# Altium footprint library PCB1.PcbLib: 25 footprints (part 1 of 2)
Each footprint in its own frame and in the unit in brackets; x right, y up, seen from the top. Pads: shape width x height; smd on the part's side, far side on the other; paste and mask are expansions set on the pad; w line width, h text height; cw(c..) or ccw(c..) is an arc to the next point about the centre after c.
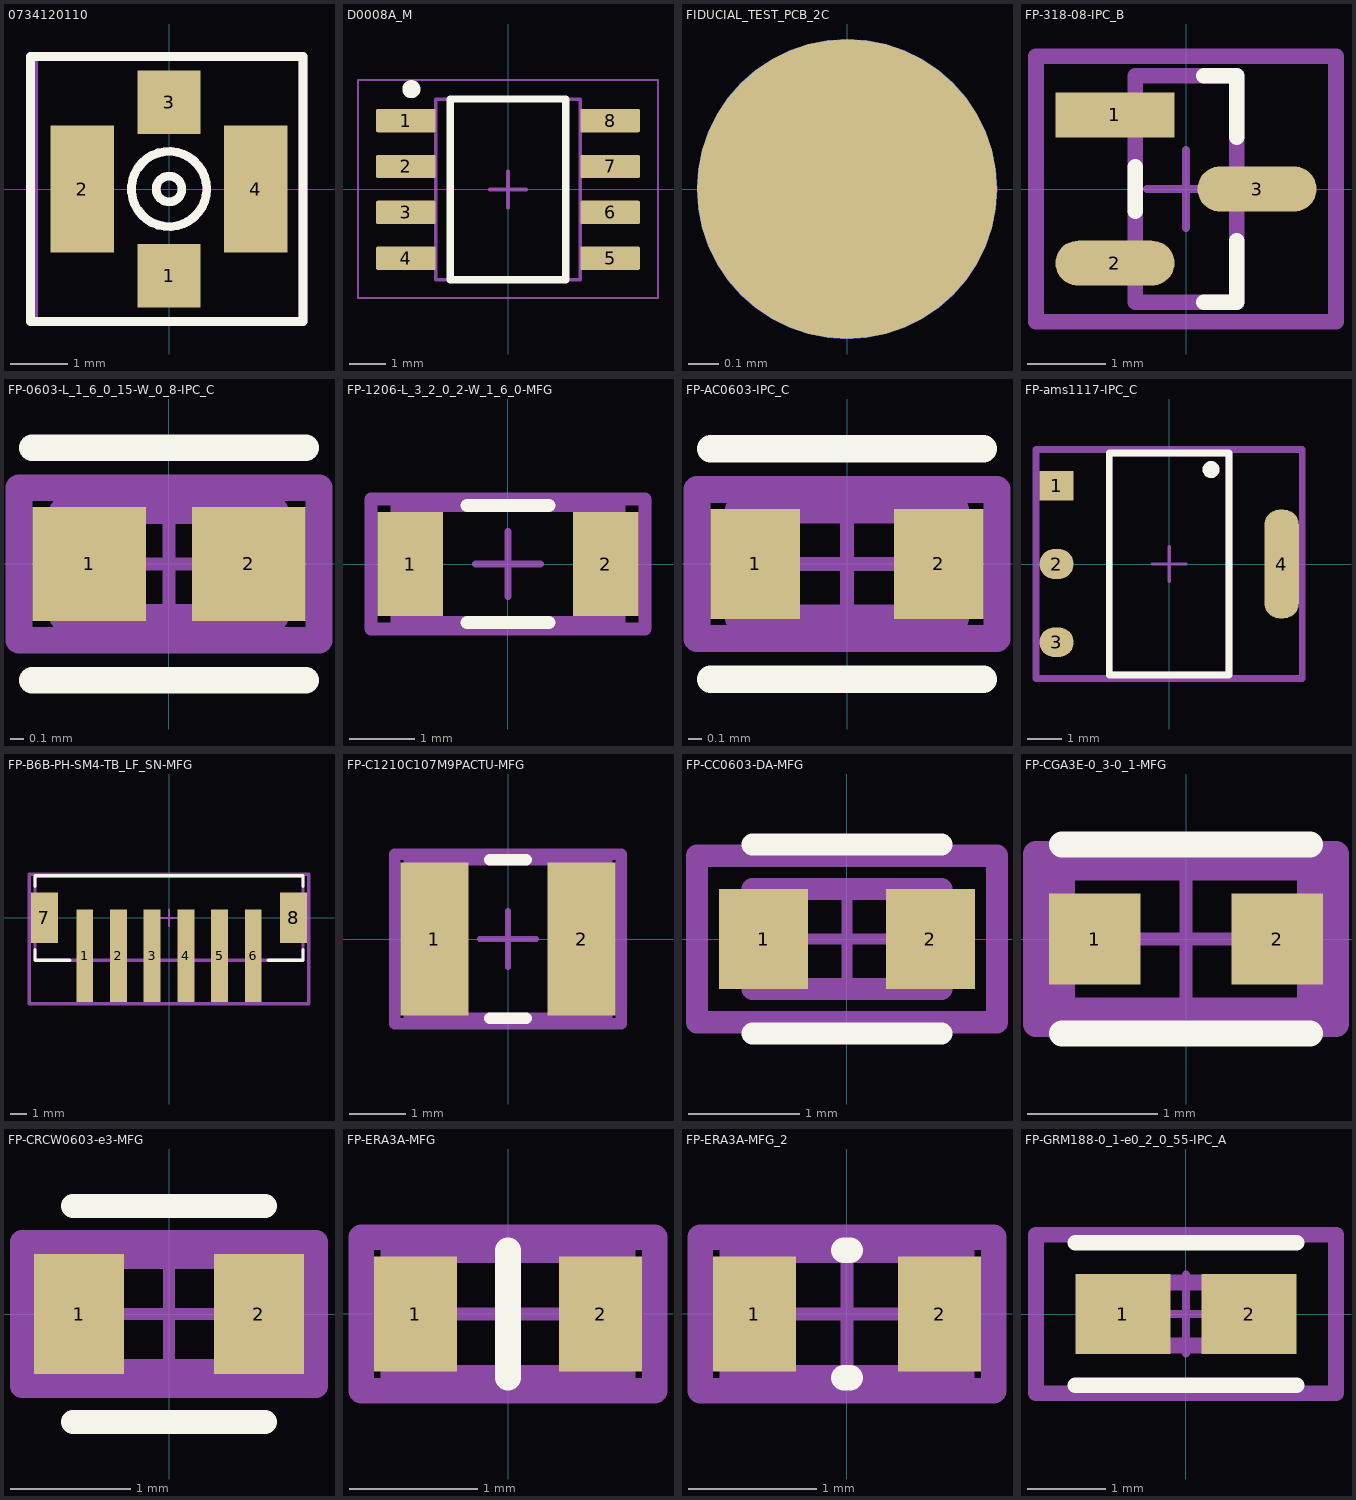
[diagram p0: the footprints below, top view; thin cyan lines are the x and y axes]

## 0734120110 [mm]
pads (4):
  rect 1.1x1.1 smd: 1(0,-1.5) 3(0,1.5)
  rect 1.1x2.2 smd: 2(-1.5,0) 4(1.5,0)
Top Overlay:
  circle w0.15: c0,0 r0.652
  circle w0.15: c0,0 r0.224
  lines w0.157: -2.4,-2.3 -2.4,2.3 2.325,2.3 2.325,-2.3 -2.4,-2.3
Mechanical 29:
  circle w0.15: c0,0 r0.652
  circle w0.15: c0,0 r0.224
  lines w0.157: -2.35,-2.3 -2.35,2.3 2.325,2.3 2.325,-2.3 -2.35,-2.3
  text ".Designator" at -0.525,-1.675 h0.9
3D body "734120110.stp": height 1.29, standoff -0.01, extent -1.5,-1.54 1.5,1.54

## D0008A_M [mm]
pads (8):
  rrect15% 1.65x0.65 smd: 1(-2.825,1.905) 2(-2.825,0.635) 3(-2.825,-0.635) 4(-2.825,-1.905) 5(2.825,-1.905) 6(2.825,-0.635) 7(2.825,0.635) 8(2.825,1.905)
Top Overlay:
  circle w0.25: c-2.675,2.775 r0.125
  lines w0.2: -1.6,-2.5 -1.6,2.5 1.6,2.5 1.6,-2.5 -1.6,-2.5
Mechanical 1:
  text ".Designator" at -1.397,-0.254 h0.6
Mechanical 13:
  lines w0.1: -2,-2.5 -2,2.5 2,2.5 2,-2.5 -2,-2.5
Mechanical 15:
  lines w0.05: -4.15,-3 -4.15,3.025 4.15,3.025 4.15,-3 -4.15,-3
  lines w0.1: -0.5,0 0.5,0 ; 0,-0.5 0,0.5
3D body "SOIC-8akaD0008AakaM08A.stp": height 1.63, standoff 0, extent -3,-2.45 3,2.45

## FIDUCIAL_TEST_PCB_2C [mm]
pads (2):
  round 1 smd mask+1: ""(0,0)
  round 1 smd far side mask+1: ""(0,0)

## FP-318-08-IPC_B [mm]
pads (3):
  rect 1.524x0.578 smd paste+0 mask+0: 1(-0.91,0.95)
  rrect100% 1.524x0.578 smd paste+0 mask+0: 2(-0.91,-0.95) 3(0.91,0)
Top Overlay:
  lines w0.2: -0.65,-0.286 -0.65,0.286 ; 0.227,-1.45 0.65,-1.45 0.65,-0.664 ; 0.227,1.45 0.65,1.45 0.65,0.664
Top 3D Body:
  lines w0.2: -0.65,-1.45 -0.65,1.45 0.65,1.45 0.65,-1.45 -0.65,-1.45
Top Assembly:
  lines w0.2: -1.922,-1.7 -1.922,1.7 1.922,1.7 1.922,-1.7 -1.922,-1.7
  text ".Designator" at 0,0 h1
Top Component Center:
  lines w0.1: -0.5,0 0.5,0 ; 0,-0.5 0,0.5
3D body "IC_ON_Semiconductor_NUD3112LT1G_eec.STEP": height 0.25, standoff 0, extent -1.922,-1.7 1.922,1.7

## FP-0603-L_1_6_0_15-W_0_8-IPC_C [mm]
pads (2):
  rect 0.858x0.862 smd paste+0 mask+0: 1(-0.602,0) 2(0.602,0)
Top Overlay:
  lines w0.2: -1.031,-0.875 1.031,-0.875 ; -1.031,0.875 1.031,0.875
Top 3D Body:
  lines w0.2: -0.8,-0.4 -0.8,0.4 0.8,0.4 0.8,-0.4 -0.8,-0.4
Top Courtyard:
  lines w0.2: -1.131,-0.575 -1.131,0.575 1.131,0.575 1.131,-0.575 -1.131,-0.575
Top Assembly:
  lines w0.2: -1.131,-0.575 -1.131,0.575 1.131,0.575 1.131,-0.575 -1.131,-0.575
  text ".Designator" at 0,0.188 h1
Top Component Center:
  lines w0.1: -0.5,0 0.5,0 ; 0,-0.5 0,0.5
3D body "Cap_Taiyo_Yuden_EMK107ABJ475KA-T_eec.STEP": height 0.25, standoff 0, extent -1.131,-0.575 1.131,0.575

## FP-1206-L_3_2_0_2-W_1_6_0-MFG [mm]
pads (2):
  rect 1x1.6 smd paste+0 mask+0: 1(-1.5,0) 2(1.5,0)
Top Overlay:
  lines w0.2: -0.625,-0.9 0.625,-0.9 ; -0.625,0.9 0.625,0.9
Top 3D Body:
  lines w0.2: -1.7,-0.9 1.7,-0.9 1.7,0.9 -1.7,0.9 -1.7,-0.9
Top Courtyard:
  lines w0.2: -2.1,-1 2.1,-1 2.1,1 -2.1,1 -2.1,-1
Top Assembly:
  lines w0.2: -2.1,-1 2.1,-1 2.1,1 -2.1,1 -2.1,-1
  text ".Designator" at 0,0.189 h1
Top Component Center:
  lines w0.1: -0.5,0 0.5,0 ; 0,-0.5 0,0.5
3D body "Cap_AVX_12065A222JAT2A_eec.STEP": height 0.25, standoff 0, extent -2.1,-1 2.1,1

## FP-AC0603-IPC_C [mm]
pads (2):
  rect 0.659x0.812 smd paste+0 mask+0: 1(-0.677,0) 2(0.677,0)
Top Overlay:
  lines w0.2: -1.006,-0.85 1.006,-0.85 ; -1.006,0.85 1.006,0.85
Top 3D Body:
  lines w0.2: -0.8,-0.4 -0.8,0.4 0.8,0.4 0.8,-0.4 -0.8,-0.4
Top Courtyard:
  lines w0.2: -1.106,-0.55 -1.106,0.55 1.106,0.55 1.106,-0.55 -1.106,-0.55
Top Assembly:
  lines w0.2: -1.106,-0.55 -1.106,0.55 1.106,0.55 1.106,-0.55 -1.106,-0.55
  text ".Designator" at 0,0.189 h1
Top Component Center:
  lines w0.1: -0.5,0 0.5,0 ; 0,-0.5 0,0.5
3D body "Res_Yageo_AC0603FR-07180RL_eec.STEP": height 0.25, standoff 0, extent -1.106,-0.55 1.106,0.55

## FP-ams1117-IPC_C [mm]
pads (4):
  rect 1.004x0.872 smd paste+0 mask+0: 1(-3.295,2.29)
  rrect100% 1.004x0.872 smd paste+0 mask+0: 2(-3.295,0) 3(-3.295,-2.29)
  rrect87% 1.004x3.182 smd paste+0 mask+0: 4(3.295,0)
Top Overlay:
  circle w0.25: c1.23,2.765 r0.125
  lines w0.2: -1.752,-3.253 1.753,-3.253 1.753,3.253 -1.752,3.253 -1.752,-3.253
Top 3D Body:
  lines w0.2: -1.752,-3.253 1.753,-3.253 1.753,3.253 -1.752,3.253 -1.752,-3.253
Top Courtyard:
  lines w0.2: -3.897,-3.352 3.897,-3.352 3.897,3.352 -3.897,3.352 -3.897,-3.352
Top Assembly:
  lines w0.2: -3.897,-3.352 3.897,-3.352 3.897,3.352 -3.897,3.352 -3.897,-3.352
  text ".Designator" at 0,0.189 h1
Top Component Center:
  lines w0.1: -0.5,0 0.5,0 ; 0,-0.5 0,0.5
3D body "IC_Advanced_Monolithic_Systems_ams1117_eec.STEP": height 0.25, standoff 0, extent -3.897,-3.353 3.897,3.353

## FP-B6B-PH-SM4-TB_LF_SN-MFG [mm]
pads (8):
  rect 1x5.5 smd paste+0 mask+0: 1(-5,-2.25) 2(-3,-2.25) 3(-1,-2.25) 4(1,-2.25) 5(3,-2.25) 6(5,-2.25)
  rect 1.6x3 smd paste+0 mask+0: 7(-7.4,0) 8(7.4,0)
Top Overlay:
  lines w0.2: -7.95,-1.875 -7.95,-2.5 -5.875,-2.5 ; -7.95,1.875 -7.95,2.5 7.95,2.5 7.95,1.875 ; 5.875,-2.5 7.95,-2.5 7.95,-1.875
Top 3D Body:
  lines w0.2: -7.95,-2.5 -7.95,2.5 7.95,2.5 7.95,-2.5 -7.95,-2.5
Top Courtyard:
  lines w0.2: -8.3,-5.1 -8.3,2.6 8.3,2.6 8.3,-5.1 -8.3,-5.1
Top Assembly:
  lines w0.2: -8.3,-5.1 -8.3,2.6 8.3,2.6 8.3,-5.1 -8.3,-5.1
  text ".Designator" at 0,-1.25 h1
Top Component Center:
  lines w0.1: -0.5,0 0.5,0 ; 0,-0.5 0,0.5
3D body "Conn_JST_B6B-PH-SM4-TB_LF_SN_eec.STEP": height 0.25, standoff 0, extent -8.3,-5.1 8.3,2.6

## FP-C1210C107M9PACTU-MFG [mm]
pads (2):
  rect 1.2x2.7 smd paste+0 mask+0: 1(-1.3,0) 2(1.3,0)
Top Overlay:
  lines w0.2: -0.325,-1.4 0.325,-1.4 ; -0.325,1.4 0.325,1.4
Top 3D Body:
  lines w0.2: -1.75,-1.4 1.75,-1.4 1.75,1.4 -1.75,1.4 -1.75,-1.4
Top Courtyard:
  lines w0.2: -2,-1.5 2,-1.5 2,1.5 -2,1.5 -2,-1.5
Top Assembly:
  lines w0.2: -2,-1.5 2,-1.5 2,1.5 -2,1.5 -2,-1.5
  text ".Designator" at 0,0.188 h1
Top Component Center:
  lines w0.1: -0.5,0 0.5,0 ; 0,-0.5 0,0.5
3D body "Cap_Kemet_C1210C107M9PACTU_eec.STEP": height 0.25, standoff 0, extent -2,-1.5 2,1.5

## FP-CC0603-DA-MFG [mm]
pads (2):
  rect 0.8x0.9 smd paste+0 mask+0: 1(-0.75,0) 2(0.75,0)
Top Overlay:
  lines w0.2: -0.85,-0.85 0.85,-0.85 ; -0.85,0.85 0.85,0.85
Top 3D Body:
  lines w0.2: -0.85,-0.45 0.85,-0.45 0.85,0.45 -0.85,0.45 -0.85,-0.45
Top Courtyard:
  lines w0.2: -1.35,-0.75 1.35,-0.75 1.35,0.75 -1.35,0.75 -1.35,-0.75
Top Assembly:
  lines w0.2: -1.35,-0.75 1.35,-0.75 1.35,0.75 -1.35,0.75 -1.35,-0.75
  text ".Designator" at 0,0.189 h1
Top Component Center:
  lines w0.1: -0.5,0 0.5,0 ; 0,-0.5 0,0.5
3D body "Cap_YAGEO_CC0603KRX7R9BB271_eec.STEP": height 0.25, standoff 0, extent -1.35,-0.75 1.35,0.75

## FP-CGA3E-0_3-0_1-MFG [mm]
pads (2):
  rect 0.7x0.7 smd paste+0 mask+0: 1(-0.7,0) 2(0.7,0)
Top Overlay:
  lines w0.2: -0.95,-0.725 0.95,-0.725 ; -0.95,0.725 0.95,0.725
Top 3D Body:
  lines w0.2: -0.95,-0.55 0.95,-0.55 0.95,0.55 -0.95,0.55 -0.95,-0.55
Top Courtyard:
  lines w0.2: -1.15,-0.65 1.15,-0.65 1.15,0.65 -1.15,0.65 -1.15,-0.65
Top Assembly:
  lines w0.2: -1.15,-0.65 1.15,-0.65 1.15,0.65 -1.15,0.65 -1.15,-0.65
  text ".Designator" at 0,0.188 h1
Top Component Center:
  lines w0.1: -0.5,0 0.5,0 ; 0,-0.5 0,0.5
3D body "Cap_TDK_CGA3E3X7R1E334K080AB_eec.STEP": height 0.25, standoff 0, extent -1.15,-0.65 1.15,0.65

## FP-CRCW0603-e3-MFG [mm]
pads (2):
  rect 0.75x1 smd paste+0 mask+0: 1(-0.75,0) 2(0.75,0)
Top Overlay:
  lines w0.2: -0.8,-0.9 0.8,-0.9 ; -0.8,0.9 0.8,0.9
Top 3D Body:
  lines w0.2: -0.825,-0.475 -0.825,0.475 0.825,0.475 0.825,-0.475 -0.825,-0.475
Top Courtyard:
  lines w0.2: -1.225,-0.6 -1.225,0.6 1.225,0.6 1.225,-0.6 -1.225,-0.6
Top Assembly:
  lines w0.2: -1.225,-0.6 -1.225,0.6 1.225,0.6 1.225,-0.6 -1.225,-0.6
  text ".Designator" at 0,0.189 h1
Top Component Center:
  lines w0.1: -0.5,0 0.5,0 ; 0,-0.5 0,0.5
3D body "Res_Vishay_CRCW06033M90FKEC_eec.STEP": height 0.25, standoff 0, extent -1.225,-0.6 1.225,0.6

## FP-ERA3A-MFG [mm]
pads (2):
  rect 0.65x0.9 smd paste+0 mask+0: 1(-0.725,0) 2(0.725,0)
Top Overlay:
  lines w0.2: 0,-0.5 0,0.5
Top 3D Body:
  lines w0.2: -0.9,-0.5 -0.9,0.5 0.9,0.5 0.9,-0.5 -0.9,-0.5
Top Courtyard:
  lines w0.2: -1.15,-0.6 -1.15,0.6 1.15,0.6 1.15,-0.6 -1.15,-0.6
Top Assembly:
  lines w0.2: -1.15,-0.6 -1.15,0.6 1.15,0.6 1.15,-0.6 -1.15,-0.6
  text ".Designator" at 0,0 h1
Top Component Center:
  lines w0.1: -0.5,0 0.5,0 ; 0,-0.5 0,0.5
3D body "Res_Panasonic_Electronic_Components_ERA-3ARB202V_eec.STEP": height 0.25, standoff 0, extent -1.15,-0.6 1.15,0.6

## FP-ERA3A-MFG_2 [mm]
pads (2):
  rect 0.65x0.9 smd paste+0 mask+0: 1(-0.725,0) 2(0.725,0)
Top Overlay:
  lines w0.2: -0.025,-0.5 0.025,-0.5 ; -0.025,0.5 0.025,0.5
Top 3D Body:
  lines w0.2: -0.9,-0.5 0.9,-0.5 0.9,0.5 -0.9,0.5 -0.9,-0.5
Top Courtyard:
  lines w0.2: -1.15,-0.6 1.15,-0.6 1.15,0.6 -1.15,0.6 -1.15,-0.6
Top Assembly:
  lines w0.2: -1.15,-0.6 1.15,-0.6 1.15,0.6 -1.15,0.6 -1.15,-0.6
  text ".Designator" at 0,0.189 h1
Top Component Center:
  lines w0.1: -0.5,0 0.5,0 ; 0,-0.5 0,0.5
3D body "Res_Panasonic_ERA-3AEB753V_eec.STEP": height 0.25, standoff 0, extent -1.15,-0.6 1.15,0.6

## FP-GRM188-0_1-e0_2_0_55-IPC_A [mm]
pads (2):
  rect 1.208x1.012 smd paste+0 mask+0: 1(-0.802,0) 2(0.802,0)
Top Overlay:
  lines w0.2: -1.406,-0.906 1.406,-0.906 ; -1.406,0.906 1.406,0.906
Top 3D Body:
  lines w0.2: -0.8,-0.4 -0.8,0.4 0.8,0.4 0.8,-0.4 -0.8,-0.4
Top Courtyard:
  lines w0.2: -1.906,-1.006 -1.906,1.006 1.906,1.006 1.906,-1.006 -1.906,-1.006
Top Assembly:
  lines w0.2: -1.906,-1.006 -1.906,1.006 1.906,1.006 1.906,-1.006 -1.906,-1.006
  text ".Designator" at 0,0.189 h1
Top Component Center:
  lines w0.1: -0.5,0 0.5,0 ; 0,-0.5 0,0.5
3D body "Cap_Murata_GRM188R60J106KE47D_eec.STEP": height 0.25, standoff 0, extent -1.906,-1.006 1.906,1.006